# EAGLE library part 2X04 (library Jordi)
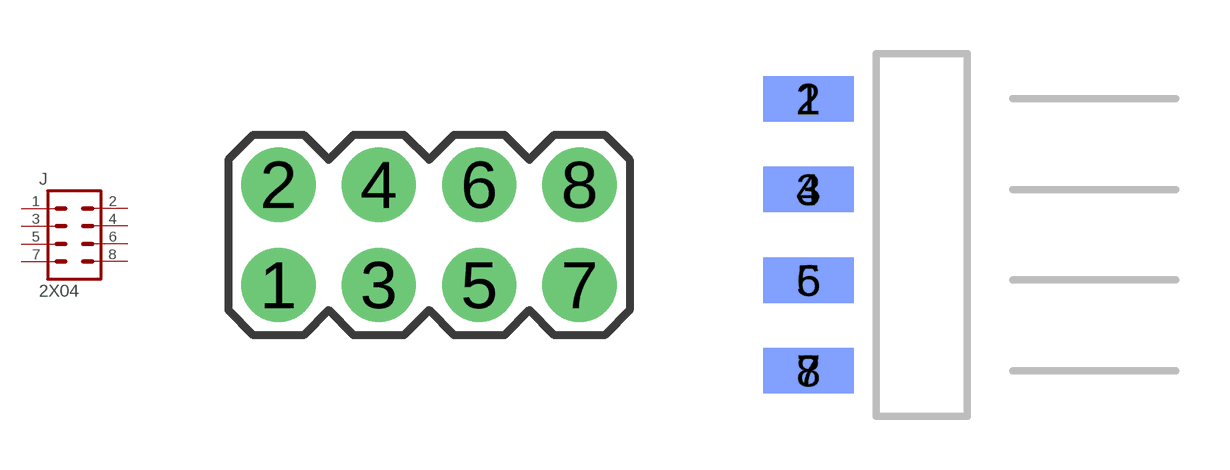
[diagram p13: symbol with the pads of M-2X04-0.1-PTH; footprints M-2X04-0.1-PTH, M-2X04-0.1-EDGE]

Designator prefix J

## 2X04M-0.1-PTH  [M-2X04-0.1-PTH]
1  1  pas
2  2  pas
3  3  pas
4  4  pas
5  5  pas
6  6  pas
7  7  pas
8  8  pas

## 2X04M-0.1-EDGE  [M-2X04-0.1-EDGE]
Pads as for M-2X04-0.1-PTH

## 2X04M-0.1-PTH-SHROUDED  [M-2X04-0.1-PTH-SHROUDED]
Pads as for M-2X04-0.1-PTH

## 2X04M-0.1-EDGE-SHROUDED  [M-2X04-0.1-EDGE-SHROUDED]
Pads as for M-2X04-0.1-PTH

## Footprint M-2X04-0.1-PTH (pad centres in mm)
drill 1.016 pad 1.88: 1 -3.81,-1.27; 2 -3.81,1.27; 3 -1.27,-1.27; 4 -1.27,1.27; 5 1.27,-1.27; 6 1.27,1.27; 7 3.81,-1.27; 8 3.81,1.27

## Footprint M-2X04-0.1-EDGE (pad centres in mm)
smd 2.54 x 1.27: 1 0,3.81; 3 0,1.27; 5 0,-1.27; 7 0,-3.81
smd 2.54 x 1.27 bottom: 2 0,3.81; 4 0,1.27; 6 0,-1.27; 8 0,-3.81

## Footprint M-2X04-0.1-PTH-SHROUDED (pad centres in mm)
drill 1.016 pad 1.88: 1 -3.81,-1.27; 2 -3.81,1.27; 3 -1.27,-1.27; 4 -1.27,1.27; 5 1.27,-1.27; 6 1.27,1.27; 7 3.81,-1.27; 8 3.81,1.27

## Footprint M-2X04-0.1-EDGE-SHROUDED (pad centres in mm)
smd 2.54 x 1.27: 1 0,3.81; 3 0,1.27; 5 0,-1.27; 7 0,-3.81
smd 2.54 x 1.27 bottom: 2 0,3.81; 4 0,1.27; 6 0,-1.27; 8 0,-3.81